# EAGLE library part LOW_SIDE_DRIVERX7 (library everykey)
Low side driver, such as ULN2003 (darlington) or TBD62003 (FET)
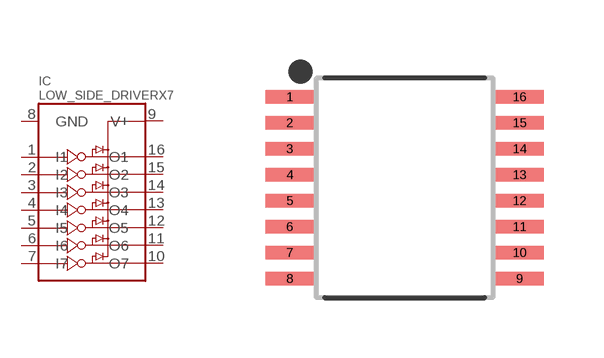
[diagram p83: symbol with the pads of TSSOP16-4.4-0.65; footprint TSSOP16-4.4-0.65]

Designator prefix IC

## LOW_SIDE_DRIVERX7-TSSOP16  [TSSOP16-4.4-0.65]
1  I1
2  I2
3  I3
4  I4
5  I5
6  I6
7  I7
8  GND
9  V+
10  O7
11  O6
12  O5
13  O4
14  O3
15  O2
16  O1

## Footprint TSSOP16-4.4-0.65 (pad centres in mm)
TSSOP package, 16 pins, 4.4mm body width
smd 1.2 x 0.33: 1 -2.875,2.275; 2 -2.875,1.625; 3 -2.875,0.975; 4 -2.875,0.325; 5 -2.875,-0.325; 6 -2.875,-0.975; 7 -2.875,-1.625; 8 -2.875,-2.275; 9 2.875,-2.275; 10 2.875,-1.625; 11 2.875,-0.975; 12 2.875,-0.325; 13 2.875,0.325; 14 2.875,0.975; 15 2.875,1.625; 16 2.875,2.275